# Altium schematic symbol library RC0201FR-07100RL.SchLib: 1 symbol
Pins are listed as number, name and electrical type; pins without a type are passive.

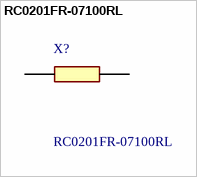
[diagram p0: symbol RC0201FR-07100RL]

## RC0201FR-07100RL
designator X?
82 kOhms +/-1% 0.05W, 1/20W Chip Resistor 0201 (0603 Metric) Moisture Resistant Thick Film; Manufacturer_Name: Yageo Group; Geometry.Height: 0.26mm; Mouser Part Number: 603-RC0201FR-07100RL; Mouser Price/Stock: https://www.mouser.co.uk/ProductDetail/YAGEO/RC0201FR-07100RL?qs=FLc6udek5PRwfeGTHdjZ3w%3D%3D; Manufacturer_Part_Number: RC0201FR-07100RL; Datasheet Link: https://www.yageo.com/upload/media/product/productsearch/datasheet/rchip/PYu-RC_Group_51_RoHS_L_12.pdf
footprint RESC0603X26N
pins: 1, 2